# Altium footprint library aiskylab-14Connectors-01FFC-FPC.PcbLib: 118 footprints (part 4 of 8)
Each footprint in its own frame and in the unit in brackets; x right, y up, seen from the top. Pads: shape width x height; smd on the part's side, far side on the other; paste and mask are expansions set on the pad; w line width, h text height; cw(c..) or ccw(c..) is an arc to the next point about the centre after c.
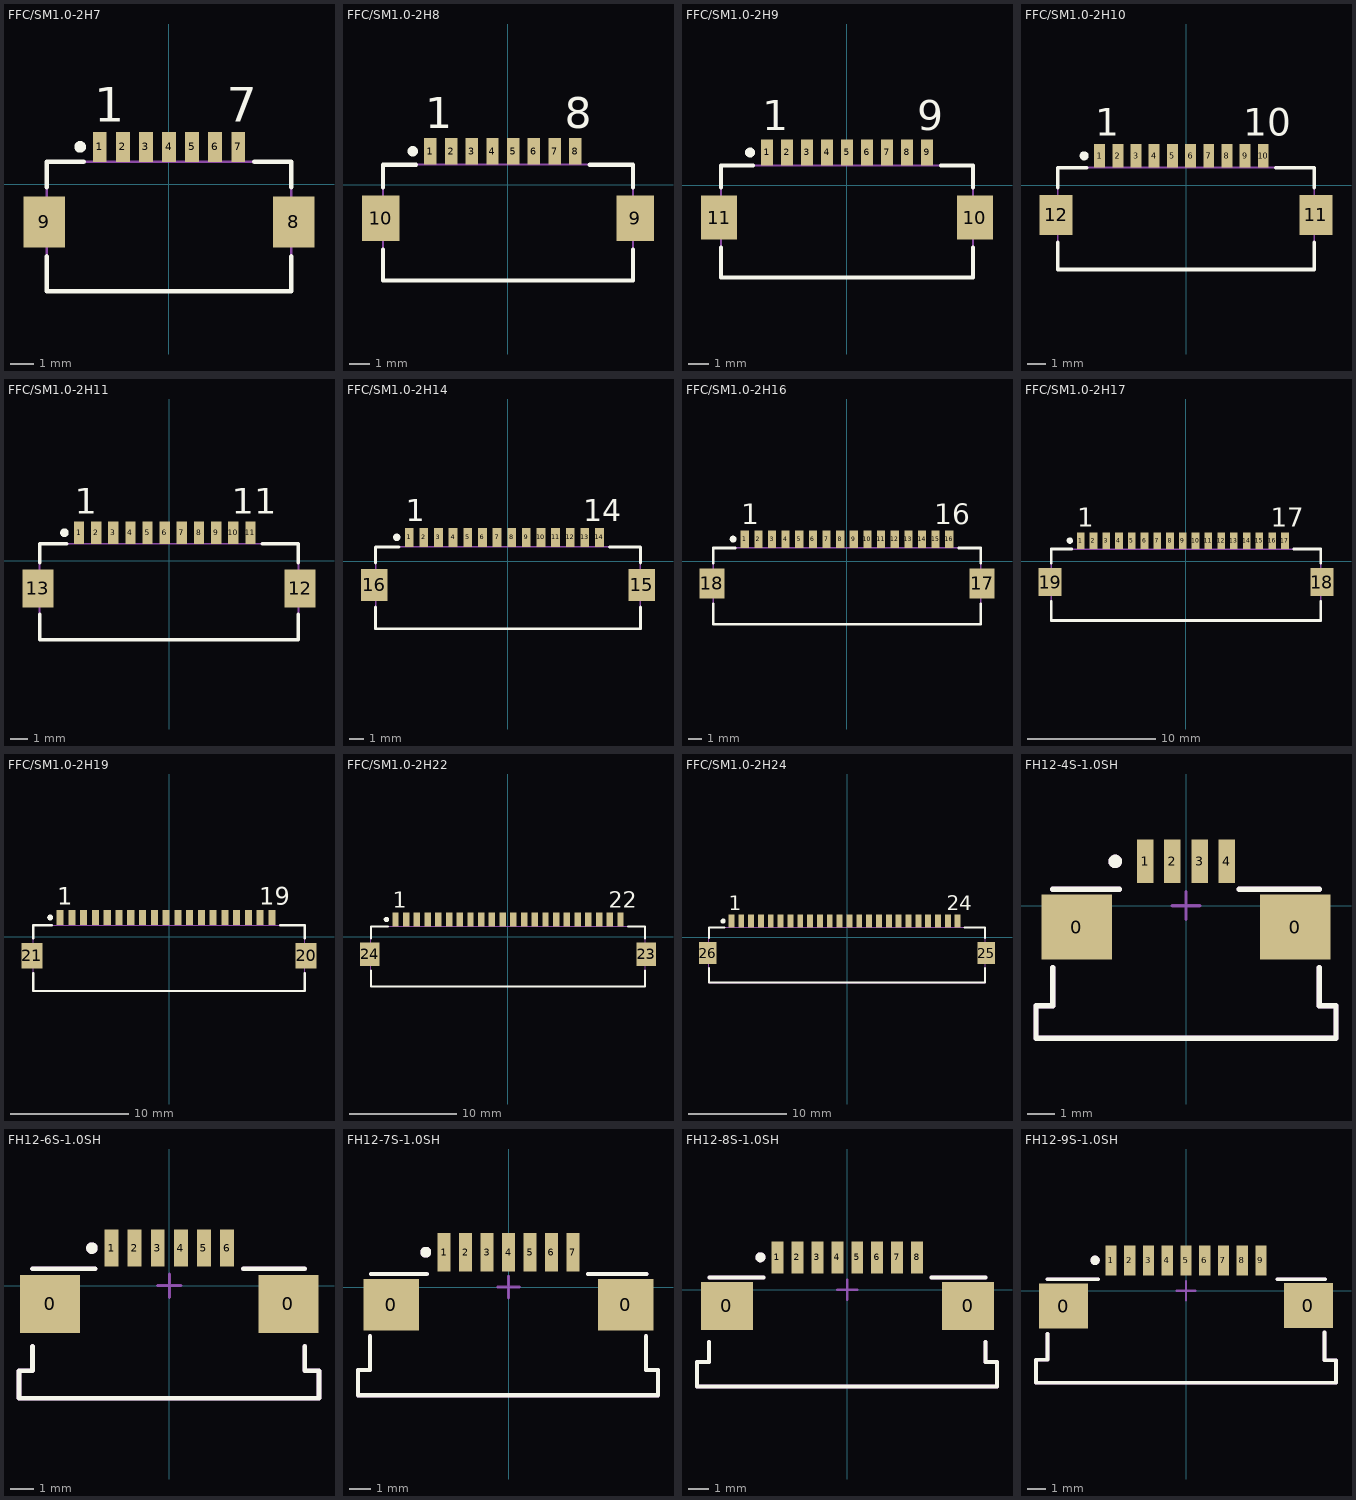
[diagram p3: the footprints below, top view; thin cyan lines are the x and y axes]

## FFC/SM1.0-2H7 [mm] "Connector; FH12 Series; 7 Position; 1.0mm Spaced Bottom Standard Contact"
height 2
pads (9):
  rect 0.6x1.3 smd: 1(-3,1.625) 2(-2,1.625) 3(-1,1.625) 4(0,1.625) 5(1,1.625) 6(2,1.625) 7(3,1.625)
  rect 1.8x2.2 smd: 8(5.4,-1.625) 9(-5.4,-1.625)
Top Overlay:
  circle w0.25: c-3.85,1.625 r0.125
  lines w0.2: -5.3,-3.125 -5.3,-4.625 5.3,-4.625 5.3,-3.125 ; -5.3,-0.125 -5.3,0.975 -3.7,0.975 ; 3.7,0.975 5.3,0.975 5.3,-0.125
  text "7" at 2.5,2.725 h1.5
  text "1" at -3.25,2.725 h1.5
Bottom Value:
  lines w0.1: -5.3,-4.625 5.3,-4.625 5.3,0.975 -5.3,0.975 -5.3,-4.625

## FFC/SM1.0-2H8 [mm] "Connector; FH12 Series; 8 Position; 1.0mm Spaced Bottom Eccentric Contact"
height 2
pads (10):
  rect 0.6x1.3 smd: 1(-3.75,1.625) 2(-2.75,1.625) 3(-1.75,1.625) 4(-0.75,1.625) 5(0.25,1.625) 6(1.25,1.625) 7(2.25,1.625) 8(3.25,1.625)
  rect 1.8x2.2 smd: 9(6.15,-1.625) 10(-6.15,-1.625)
Top Overlay:
  circle w0.25: c-4.6,1.625 r0.125
  lines w0.2: -6.05,-3.125 -6.05,-4.625 6.05,-4.625 6.05,-3.125 ; -6.05,-0.125 -6.05,0.975 -4.45,0.975 ; 3.95,0.975 6.05,0.975 6.05,-0.125
  text "8" at 2.75,2.725 h1.5
  text "1" at -4,2.725 h1.5
Bottom Value:
  lines w0.1: -6.05,-4.625 -6.05,0.975 6.05,0.975 6.05,-4.625 -6.05,-4.625

## FFC/SM1.0-2H9 [mm] "Connector; FH12 Series; 9 Position; 1.0mm Spaced Bottom Standard Contact"
height 2
pads (11):
  rect 0.6x1.3 smd: 1(-4,1.625) 2(-3,1.625) 3(-2,1.625) 4(-1,1.625) 5(0,1.625) 6(1,1.625) 7(2,1.625) 8(3,1.625) 9(4,1.625)
  rect 1.8x2.2 smd: 10(6.4,-1.625) 11(-6.4,-1.625)
Top Overlay:
  circle w0.25: c-4.85,1.625 r0.125
  lines w0.2: -6.3,-3.125 -6.3,-4.625 6.3,-4.625 6.3,-3.125 ; -6.3,-0.125 -6.3,0.975 -4.7,0.975 ; 4.7,0.975 6.3,0.975 6.3,-0.125
  text "9" at 3.5,2.725 h1.5
  text "1" at -4.25,2.725 h1.5
Bottom Value:
  lines w0.1: -6.3,-4.625 -6.3,0.975 6.3,0.975 6.3,-4.625 -6.3,-4.625

## FFC/SM1.0-2H10 [mm] "Connector; FH12 Series; 10 Position; 1.0mm Spaced Bottom Eccentric Contact"
height 2
pads (12):
  rect 0.6x1.3 smd: 1(-4.75,1.625) 2(-3.75,1.625) 3(-2.75,1.625) 4(-1.75,1.625) 5(-0.75,1.625) 6(0.25,1.625) 7(1.25,1.625) 8(2.25,1.625) 9(3.25,1.625) 10(4.25,1.625)
  rect 1.8x2.2 smd: 11(7.15,-1.625) 12(-7.15,-1.625)
Top Overlay:
  circle w0.25: c-5.6,1.625 r0.125
  lines w0.2: -7.05,-3.125 -7.05,-4.625 7.05,-4.625 7.05,-3.125 ; -7.05,-0.125 -7.05,0.975 -5.45,0.975 ; 4.95,0.975 7.05,0.975 7.05,-0.125
  text "10" at 3.15,2.725 h1.5
  text "1" at -5,2.725 h1.5
Bottom Value:
  lines w0.1: -7.05,-4.625 -7.05,0.975 7.05,0.975 7.05,-4.625 -7.05,-4.625

## FFC/SM1.0-2H11 [mm] "Connector; FH12 Series; 11 Position; 1.0mm Spaced Bottom Eccentric Contact"
height 2
pads (13):
  rect 0.6x1.3 smd: 1(-5.25,1.625) 2(-4.25,1.625) 3(-3.25,1.625) 4(-2.25,1.625) 5(-1.25,1.625) 6(-0.25,1.625) 7(0.75,1.625) 8(1.75,1.625) 9(2.75,1.625) 10(3.75,1.625) 11(4.75,1.625)
  rect 1.8x2.2 smd: 12(7.65,-1.625) 13(-7.65,-1.625)
Top Overlay:
  circle w0.25: c-6.1,1.625 r0.125
  lines w0.2: -7.55,-3.125 -7.55,-4.625 7.55,-4.625 7.55,-3.125 ; -7.55,-0.125 -7.55,0.975 -5.95,0.975 ; 5.45,0.975 7.55,0.975 7.55,-0.125
  text "1" at -5.5,2.725 h1.5
  text "11" at 3.65,2.725 h1.5
Bottom Value:
  lines w0.1: -7.55,-4.625 -7.55,0.975 7.55,0.975 7.55,-4.625 -7.55,-4.625

## FFC/SM1.0-2H14 [mm] "Connector; FH12 Series; 14 Position; 1.0mm Spaced Bottom Eccentric Contact"
height 2
pads (16):
  rect 0.6x1.3 smd: 1(-6.75,1.625) 2(-5.75,1.625) 3(-4.75,1.625) 4(-3.75,1.625) 5(-2.75,1.625) 6(-1.75,1.625) 7(-0.75,1.625) 8(0.25,1.625) 9(1.25,1.625) 10(2.25,1.625) 11(3.25,1.625) 12(4.25,1.625) 13(5.25,1.625) 14(6.25,1.625)
  rect 1.8x2.2 smd: 15(9.15,-1.625) 16(-9.15,-1.625)
Top Overlay:
  circle w0.25: c-7.6,1.625 r0.125
  lines w0.2: -9.05,-3.125 -9.05,-4.625 9.05,-4.625 9.05,-3.125 ; -9.05,-0.125 -9.05,0.975 -7.45,0.975 ; 6.95,0.975 9.05,0.975 9.05,-0.125
  text "14" at 5.15,2.725 h1.5
  text "1" at -7,2.725 h1.5
Bottom Value:
  lines w0.1: -9.05,-4.625 -9.05,0.975 9.05,0.975 9.05,-4.625 -9.05,-4.625

## FFC/SM1.0-2H16 [mm] "Connector; FH12 Series; 16 Position; 1.0mm Spaced Bottom Standard Contact"
height 2
pads (18):
  rect 0.6x1.3 smd: 1(-7.5,1.625) 2(-6.5,1.625) 3(-5.5,1.625) 4(-4.5,1.625) 5(-3.5,1.625) 6(-2.5,1.625) 7(-1.5,1.625) 8(-0.5,1.625) 9(0.5,1.625) 10(1.5,1.625) 11(2.5,1.625) 12(3.5,1.625) 13(4.5,1.625) 14(5.5,1.625) 15(6.5,1.625) 16(7.5,1.625)
  rect 1.8x2.2 smd: 17(9.9,-1.625) 18(-9.9,-1.625)
Top Overlay:
  circle w0.25: c-8.35,1.625 r0.125
  lines w0.2: -9.8,-3.125 -9.8,-4.625 9.8,-4.625 9.8,-3.125 ; -9.8,-0.125 -9.8,0.975 -8.2,0.975 ; 8.2,0.975 9.8,0.975 9.8,-0.125
  text "16" at 6.4,2.725 h1.5
  text "1" at -7.75,2.725 h1.5
Bottom Value:
  lines w0.1: -9.8,-4.625 -9.8,0.975 9.8,0.975 9.8,-4.625 -9.8,-4.625

## FFC/SM1.0-2H17 [mm] "Connector; FH12 Series; 17 Position; 1.0mm Spaced Bottom Eccentric Contact"
height 2
pads (19):
  rect 0.6x1.3 smd: 1(-8.25,1.625) 2(-7.25,1.625) 3(-6.25,1.625) 4(-5.25,1.625) 5(-4.25,1.625) 6(-3.25,1.625) 7(-2.25,1.625) 8(-1.25,1.625) 9(-0.25,1.625) 10(0.75,1.625) 11(1.75,1.625) 12(2.75,1.625) 13(3.75,1.625) 14(4.75,1.625) 15(5.75,1.625) 16(6.75,1.625) 17(7.75,1.625)
  rect 1.8x2.2 smd: 18(10.65,-1.625) 19(-10.65,-1.625)
Top Overlay:
  circle w0.25: c-9.1,1.625 r0.125
  lines w0.2: -10.55,-3.125 -10.55,-4.625 10.55,-4.625 10.55,-3.125 ; -10.55,-0.125 -10.55,0.975 -8.95,0.975 ; 8.45,0.975 10.55,0.975 10.55,-0.125
  text "1" at -8.5,2.725 h1.5
  text "17" at 6.65,2.725 h1.5
Bottom Value:
  lines w0.1: -10.55,-4.625 -10.55,0.975 10.55,0.975 10.55,-4.625 -10.55,-4.625

## FFC/SM1.0-2H19 [mm] "Connector; FH12 Series; 19 Position; 1.0mm Spaced Bottom Eccentric Contact"
height 2
pads (21):
  rect 0.6x1.3 smd: 1(-9.25,1.625) 2(-8.25,1.625) 3(-7.25,1.625) 4(-6.25,1.625) 5(-5.25,1.625) 6(-4.25,1.625) 7(-3.25,1.625) 8(-2.25,1.625) 9(-1.25,1.625) 10(-0.25,1.625) 11(0.75,1.625) 12(1.75,1.625) 13(2.75,1.625) 14(3.75,1.625) 15(4.75,1.625) 16(5.75,1.625) 17(6.75,1.625) 18(7.75,1.625) 19(8.75,1.625)
  rect 1.8x2.2 smd: 20(11.65,-1.625) 21(-11.65,-1.625)
Top Overlay:
  circle w0.25: c-10.1,1.625 r0.125
  lines w0.2: -11.55,-3.125 -11.55,-4.625 11.55,-4.625 11.55,-3.125 ; -11.55,-0.125 -11.55,0.975 -9.95,0.975 ; 9.45,0.975 11.55,0.975 11.55,-0.125
  text "1" at -9.5,2.725 h1.5
  text "19" at 7.65,2.725 h1.5
Bottom Value:
  lines w0.1: -11.55,-4.625 -11.55,0.975 11.55,0.975 11.55,-4.625 -11.55,-4.625

## FFC/SM1.0-2H22 [mm] "Connector; FH12 Series; 22 Position; 1.0mm Spaced Bottom Standard Contact"
height 2
pads (24):
  rect 0.6x1.3 smd: 1(-10.5,1.625) 2(-9.5,1.625) 3(-8.5,1.625) 4(-7.5,1.625) 5(-6.5,1.625) 6(-5.5,1.625) 7(-4.5,1.625) 8(-3.5,1.625) 9(-2.5,1.625) 10(-1.5,1.625) 11(-0.5,1.625) 12(0.5,1.625) 13(1.5,1.625) 14(2.5,1.625) 15(3.5,1.625) 16(4.5,1.625) 17(5.5,1.625) 18(6.5,1.625) 19(7.5,1.625) 20(8.5,1.625) 21(9.5,1.625) 22(10.5,1.625)
  rect 1.8x2.2 smd: 23(12.9,-1.625) 24(-12.9,-1.625)
Top Overlay:
  circle w0.25: c-11.35,1.625 r0.125
  lines w0.2: -12.8,-3.125 -12.8,-4.625 12.8,-4.625 12.8,-3.125 ; -12.8,-0.125 -12.8,0.975 -11.2,0.975 ; 11.2,0.975 12.8,0.975 12.8,-0.125
  text "1" at -10.75,2.725 h1.5
  text "22" at 9.4,2.725 h1.5
Bottom Value:
  lines w0.1: -12.8,-4.625 -12.8,0.975 12.8,0.975 12.8,-4.625 -12.8,-4.625

## FFC/SM1.0-2H24 [mm] "Connector; FH12 Series; 24 Position; 1.0mm Spaced Bottom Eccentric Contact"
height 2
pads (26):
  rect 0.6x1.3 smd: 1(-11.75,1.625) 2(-10.75,1.625) 3(-9.75,1.625) 4(-8.75,1.625) 5(-7.75,1.625) 6(-6.75,1.625) 7(-5.75,1.625) 8(-4.75,1.625) 9(-3.75,1.625) 10(-2.75,1.625) 11(-1.75,1.625) 12(-0.75,1.625) 13(0.25,1.625) 14(1.25,1.625) 15(2.25,1.625) 16(3.25,1.625) 17(4.25,1.625) 18(5.25,1.625) 19(6.25,1.625) 20(7.25,1.625) 21(8.25,1.625) 22(9.25,1.625) 23(10.25,1.625) 24(11.25,1.625)
  rect 1.8x2.2 smd: 25(14.15,-1.625) 26(-14.15,-1.625)
Top Overlay:
  circle w0.25: c-12.6,1.625 r0.125
  lines w0.2: -14.05,-3.125 -14.05,-4.625 14.05,-4.625 14.05,-3.125 ; -14.05,-0.125 -14.05,0.975 -12.45,0.975 ; 11.95,0.975 14.05,0.975 14.05,-0.125
  text "1" at -12,2.725 h1.5
  text "24" at 10.15,2.725 h1.5
Bottom Value:
  lines w0.1: -14.05,-4.625 14.05,-4.625 14.05,0.975 -14.05,0.975 -14.05,-4.625

## FH12-4S-1.0SH [mm] "Connector; FH12 Series; 4 Position; 1.0mm Spaced Bottom Eccentric Contact"
height 2
pads (6):
  rect 2.6x2.4 smd: 0(-4.013,-0.787) 0(4.013,-0.787)
  rect 0.6x1.6 smd: 1(-1.5,1.625) 2(-0.5,1.625) 3(0.5,1.625) 4(1.5,1.625)
Top Overlay:
  circle w0.25: c-2.6,1.625 r0.125
  lines w0.2: -4.902,-2.286 -4.902,-3.683 -5.512,-3.683 -5.512,-4.877 5.512,-4.877 5.512,-3.683 4.902,-3.683 4.902,-2.286 ; -4.902,0.61 -2.45,0.61 ; 1.95,0.61 4.902,0.61
Top Assembly:
  circle w0.25: c-2.6,1.625 r0.125
  lines w0.2: -4.902,-2.286 -4.902,-3.683 -5.512,-3.683 -5.512,-4.877 5.512,-4.877 5.512,-3.683 4.902,-3.683 4.902,-2.286 ; -4.902,0.61 -2.45,0.61 ; 1.95,0.61 4.902,0.61
Top Component Center:
  lines w0.127: -0.508,0 0.508,0 ; 0,-0.508 0,0.508
3D body: height 2.8, standoff 0, extent -5.5,-4.89 5.5,1.91

## FH12-6S-1.0SH [mm] "Connector; FH12 Series; 6 Position; 1.0mm Spaced Bottom Eccentric Contact"
height 2
pads (8):
  rect 2.6x2.5 smd: 0(-5.156,-0.787) 0(5.156,-0.787)
  rect 0.6x1.6 smd: 1(-2.5,1.625) 2(-1.5,1.625) 3(-0.5,1.625) 4(0.5,1.625) 5(1.5,1.625) 6(2.5,1.625)
Top Overlay:
  circle w0.25: c-3.346,1.625 r0.125
  lines w0.2: -5.918,-2.616 -5.918,-3.683 -6.502,-3.683 -6.502,-4.877 6.477,-4.877 6.477,-3.683 5.867,-3.683 5.867,-2.616 ; -5.918,0.737 -3.196,0.737 ; 3.204,0.737 5.867,0.737
Top Assembly:
  circle w0.25: c-3.346,1.625 r0.125
  lines w0.2: -5.918,-2.616 -5.918,-3.683 -6.502,-3.683 -6.502,-4.877 6.477,-4.877 6.477,-3.683 5.867,-3.683 5.867,-2.616 ; -5.918,0.737 -3.196,0.737 ; 3.204,0.737 5.867,0.737
Top Component Center:
  lines w0.127: -0.508,0 0.508,0 ; 0,-0.508 0,0.508
3D body: height 2.8, standoff 0, extent -6.5,-4.895 6.5,1.905

## FH12-7S-1.0SH [mm] "Connector; FH12 Series; 7 Position; 1.0mm Spaced Bottom Standard Contact"
height 2
pads (9):
  rect 2.6x2.4 smd: 0(-5.461,-0.813) 0(5.461,-0.813)
  rect 0.6x1.8 smd: 1(-3,1.625) 2(-2,1.625) 3(-1,1.625) 4(0,1.625) 5(1,1.625) 6(2,1.625) 7(3,1.625)
Top Overlay:
  circle w0.25: c-3.85,1.625 r0.125
  lines w0.2: -6.452,-2.286 -6.452,-3.861 -7.01,-3.861 -7.01,-5.029 6.96,-5.029 6.96,-3.861 6.401,-3.861 6.401,-2.286 ; -6.401,0.61 -3.81,0.61 ; 3.7,0.61 6.426,0.61
Top Assembly:
  circle w0.25: c-3.85,1.625 r0.125
  lines w0.2: -6.452,-2.286 -6.452,-3.861 -7.01,-3.861 -7.01,-5.029 6.96,-5.029 6.96,-3.861 6.401,-3.861 6.401,-2.286 ; -6.401,0.61 -3.81,0.61 ; 3.7,0.61 6.426,0.61
Top Component Center:
  lines w0.127: -0.508,0 0.508,0 ; 0,-0.508 0,0.508
3D body: height 2.8, standoff 0, extent -6.985,-4.895 7.015,1.905

## FH12-8S-1.0SH [mm] "Connector; FH12 Series; 8 Position; 1.0mm Spaced Bottom Eccentric Contact"
height 2
pads (10):
  rect 2.6x2.4 smd: 0(-6.02,-0.813) 0(6.045,-0.813)
  rect 0.6x1.6 smd: 1(-3.5,1.625) 2(-2.5,1.625) 3(-1.5,1.625) 4(-0.5,1.625) 5(0.5,1.625) 6(1.5,1.625) 7(2.5,1.625) 8(3.5,1.625)
Top Overlay:
  circle w0.25: c-4.346,1.625 r0.125
  lines w0.2: -6.909,-2.616 -6.909,-3.607 -7.518,-3.607 -7.518,-4.851 7.493,-4.851 7.493,-3.607 6.909,-3.607 6.909,-2.616 ; -6.904,0.61 -4.191,0.61 ; 4.216,0.61 6.921,0.61
Top Assembly:
  circle w0.25: c-4.346,1.625 r0.125
  lines w0.2: -6.909,-2.616 -6.909,-3.607 -7.518,-3.607 -7.518,-4.851 7.493,-4.851 7.493,-3.607 6.909,-3.607 6.909,-2.616 ; -6.904,0.61 -4.191,0.61 ; 4.216,0.61 6.921,0.61
Top Component Center:
  lines w0.127: -0.508,0 0.508,0 ; 0,-0.508 0,0.508
3D body: height 2.8, standoff 0, extent -7.493,-4.895 7.507,1.905

## FH12-9S-1.0SH [mm] "Connector; FH12 Series; 9 Position; 1.0mm Spaced Bottom Standard Contact"
height 2
pads (11):
  rect 2.6x2.4 smd: 0(-6.528,-0.813) 0(6.528,-0.787)
  rect 0.6x1.6 smd: 1(-4,1.625) 2(-3,1.625) 3(-2,1.625) 4(-1,1.625) 5(0,1.625) 6(1,1.625) 7(2,1.625) 8(3,1.625) 9(4,1.625)
Top Overlay:
  circle w0.25: c-4.85,1.625 r0.125
  lines w0.2: -7.391,-2.286 -7.391,-3.683 -8.001,-3.683 -8.001,-4.902 8.001,-4.902 8.001,-3.708 7.391,-3.708 7.391,-2.21 ; -7.391,0.61 -4.7,0.61 ; 4.877,0.61 7.417,0.61
Top Assembly:
  circle w0.25: c-4.85,1.625 r0.125
  lines w0.2: -7.391,-2.286 -7.391,-3.683 -8.001,-3.683 -8.001,-4.902 8.001,-4.902 8.001,-3.708 7.391,-3.708 7.391,-2.21 ; -7.391,0.61 -4.7,0.61 ; 4.877,0.61 7.417,0.61
Top Component Center:
  lines w0.127: -0.508,0 0.508,0 ; 0,-0.508 0,0.508
3D body: height 2.8, standoff 0, extent -8,-4.89 8,1.91